# Altium schematic symbol library DIODES PTH.SchLib: 5 symbols
Pins are listed as number, name and electrical type; pins without a type are passive.

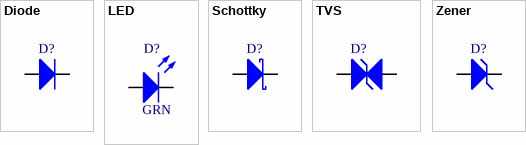
[diagram p0: symbols Diode to Zener]

## Diode
designator D?
Default Diode; Populated: Yes; ROHS: Yes; LifeCycle: Checked
footprint C1702-05
footprint C1702-15
footprint C1702-15
footprint C1702E15
footprint C2672
footprint C2673
footprint C2992
footprint C5102
footprint C4111-15
footprint CB417-12
footprint CB417-15
footprint CB429-15
footprint CB429-17
footprint D-2.5
footprint D-5
footprint D-7.5
footprint D-10
footprint D-12.5
footprint DO07
footprint DO13M
footprint DO15-12
footprint DO27-15
footprint DO27-15E
footprint DO27Z15
footprint DO34-5
footprint DO34-7
footprint DO34Z7
footprint DO35-7
footprint DO35-7A
footprint DO35-7B
footprint DO35-10
footprint DO35Z7
footprint DO35Z10
footprint DO41-7
footprint DO41-7.6
footprint DO41-10
footprint DO41Z10
footprint DO201-15
footprint DO201T15
footprint DO204-10
footprint DO218L
footprint DO218S
footprint DO220L
footprint DO-15, 600mil Axial
footprint DOP3L
footprint ER900
footprint F126-10
footprint F126-10A
footprint F126-12
footprint F126-12A
footprint F126Z10A
footprint F126Z10
footprint F126Z12
footprint F126Z12A
footprint G4-12
footprint G4-12E
footprint G4-15
footprint GT32
footprint P1-10
footprint P1-10E
footprint P1-12
footprint P1-12E
footprint P1Z12
footprint P1Z12E
footprint P2-15
footprint P3-15
footprint P6-15
footprint P6T15
footprint RAD2,5
footprint RAD2,5L
footprint RAD5G
footprint SGA-10
footprint SGB-10
footprint SGC-10
footprint SOD57-10
footprint SOD57Z10
footprint SOD61A
footprint SOD61B
footprint SOD61C
footprint SOD61D
footprint SOD61E
footprint SOD64-10
footprint SOD64-12
footprint SOD64Z10
footprint SOD64Z12
footprint SOD81
footprint SOD81Z
footprint SOD83-12
footprint SOD84
footprint SOT1862S
footprint TO18D
footprint TO220AC
footprint TO220ACK
footprint TO220ACS
footprint ZDIO12.5
footprint ZDIO-2.5
footprint ZDIO-5
footprint ZDIO-7.5
footprint ZDIO-10
pins: A, C

## LED
designator D?, comment GRN
LED Diode; Populated: Yes; Value: GRN; ROHS: Yes; LifeCycle: Checked
footprint LED 3MM PTH
footprint WP934
pins: A, C

## Schottky
designator D?
Schottky  Diode; Populated: Yes; ROHS: Yes; LifeCycle: Checked
footprint C1702-05
footprint C1702-15
footprint C1702-15
footprint C1702E15
footprint C2672
footprint C2673
footprint C2992
footprint C5102
footprint C4111-15
footprint CB417-12
footprint CB417-15
footprint CB429-15
footprint CB429-17
footprint D-2.5
footprint D-5
footprint D-7.5
footprint D-10
footprint D-12.5
footprint DO07
footprint DO13M
footprint DO15-12
footprint DO27-15
footprint DO27-15E
footprint DO27Z15
footprint DO34-5
footprint DO34-7
footprint DO34Z7
footprint DO35-7
footprint DO35-7A
footprint DO35-7B
footprint DO35-10
footprint DO35Z7
footprint DO35Z10
footprint DO41-7
footprint DO41-7.6
footprint DO41-10
footprint DO41Z10
footprint DO201-15
footprint DO201T15
footprint DO204-10
footprint DO218L
footprint DO218S
footprint DO220L
footprint DO-15, 600mil Axial
footprint DOP3L
footprint ER900
footprint F126-10
footprint F126-10A
footprint F126-12
footprint F126-12A
footprint F126Z10A
footprint F126Z10
footprint F126Z12
footprint F126Z12A
footprint G4-12
footprint G4-12E
footprint G4-15
footprint GT32
footprint P1-10
footprint P1-10E
footprint P1-12
footprint P1-12E
footprint P1Z12
footprint P1Z12E
footprint P2-15
footprint P3-15
footprint P6-15
footprint P6T15
footprint RAD2,5
footprint RAD2,5L
footprint RAD5G
footprint SGA-10
footprint SGB-10
footprint SGC-10
footprint SOD57-10
footprint SOD57Z10
footprint SOD61A
footprint SOD61B
footprint SOD61C
footprint SOD61D
footprint SOD61E
footprint SOD64-10
footprint SOD64-12
footprint SOD64Z10
footprint SOD64Z12
footprint SOD81
footprint SOD81Z
footprint SOD83-12
footprint SOD84
footprint SOT1862S
footprint TO18D
footprint TO220AC
footprint TO220ACK
footprint TO220ACS
footprint ZDIO12.5
footprint ZDIO-2.5
footprint ZDIO-5
footprint ZDIO-7.5
footprint ZDIO-10
pins: A, C

## TVS
designator D?
TVS Diode; Populated: Yes; ROHS: Yes; LifeCycle: Checked
footprint C1702-05
footprint C1702-15
footprint C1702-15
footprint C1702E15
footprint C2672
footprint C2673
footprint C2992
footprint C5102
footprint C4111-15
footprint CB417-12
footprint CB417-15
footprint CB429-15
footprint CB429-17
footprint D-2.5
footprint D-5
footprint D-7.5
footprint D-10
footprint D-12.5
footprint DO07
footprint DO13M
footprint DO15-12
footprint DO27-15
footprint DO27-15E
footprint DO27Z15
footprint DO34-5
footprint DO34-7
footprint DO34Z7
footprint DO35-7
footprint DO35-7A
footprint DO35-7B
footprint DO35-10
footprint DO35Z7
footprint DO35Z10
footprint DO41-7
footprint DO41-7.6
footprint DO41-10
footprint DO41Z10
footprint DO201-15
footprint DO201T15
footprint DO204-10
footprint DO218L
footprint DO218S
footprint DO220L
footprint DO-15, 600mil Axial
footprint DOP3L
footprint ER900
footprint F126-10
footprint F126-10A
footprint F126-12
footprint F126-12A
footprint F126Z10A
footprint F126Z10
footprint F126Z12
footprint F126Z12A
footprint G4-12
footprint G4-12E
footprint G4-15
footprint GT32
footprint P1-10
footprint P1-10E
footprint P1-12
footprint P1-12E
footprint P1Z12
footprint P1Z12E
footprint P2-15
footprint P3-15
footprint P6-15
footprint P6T15
footprint RAD2,5
footprint RAD2,5L
footprint RAD5G
footprint SGA-10
footprint SGB-10
footprint SGC-10
footprint SOD57-10
footprint SOD57Z10
footprint SOD61A
footprint SOD61B
footprint SOD61C
footprint SOD61D
footprint SOD61E
footprint SOD64-10
footprint SOD64-12
footprint SOD64Z10
footprint SOD64Z12
footprint SOD81
footprint SOD81Z
footprint SOD83-12
footprint SOD84
footprint SOT1862S
footprint TO18D
footprint TO220AC
footprint TO220ACK
footprint TO220ACS
footprint ZDIO12.5
footprint ZDIO-2.5
footprint ZDIO-5
footprint ZDIO-7.5
footprint ZDIO-10
pins: A, C

## Zener
designator D?
Zener Diode; Populated: Yes; ROHS: Yes; LifeCycle: Checked
footprint C1702-05
footprint C1702-15
footprint C1702-15
footprint C1702E15
footprint C2672
footprint C2673
footprint C2992
footprint C5102
footprint C4111-15
footprint CB417-12
footprint CB417-15
footprint CB429-15
footprint CB429-17
footprint D-2.5
footprint D-5
footprint D-7.5
footprint D-10
footprint D-12.5
footprint DO07
footprint DO13M
footprint DO15-12
footprint DO27-15
footprint DO27-15E
footprint DO27Z15
footprint DO34-5
footprint DO34-7
footprint DO34Z7
footprint DO35-7
footprint DO35-7A
footprint DO35-7B
footprint DO35-10
footprint DO35Z7
footprint DO35Z10
footprint DO41-7
footprint DO41-7.6
footprint DO41-10
footprint DO41Z10
footprint DO201-15
footprint DO201T15
footprint DO204-10
footprint DO218L
footprint DO218S
footprint DO220L
footprint DO-15, 600mil Axial
footprint DOP3L
footprint ER900
footprint F126-10
footprint F126-10A
footprint F126-12
footprint F126-12A
footprint F126Z10A
footprint F126Z10
footprint F126Z12
footprint F126Z12A
footprint G4-12
footprint G4-12E
footprint G4-15
footprint GT32
footprint P1-10
footprint P1-10E
footprint P1-12
footprint P1-12E
footprint P1Z12
footprint P1Z12E
footprint P2-15
footprint P3-15
footprint P6-15
footprint P6T15
footprint RAD2,5
footprint RAD2,5L
footprint RAD5G
footprint SGA-10
footprint SGB-10
footprint SGC-10
footprint SOD57-10
footprint SOD57Z10
footprint SOD61A
footprint SOD61B
footprint SOD61C
footprint SOD61D
footprint SOD61E
footprint SOD64-10
footprint SOD64-12
footprint SOD64Z10
footprint SOD64Z12
footprint SOD81
footprint SOD81Z
footprint SOD83-12
footprint SOD84
footprint SOT1862S
footprint TO18D
footprint TO220AC
footprint TO220ACK
footprint TO220ACS
footprint ZDIO12.5
footprint ZDIO-2.5
footprint ZDIO-5
footprint ZDIO-7.5
footprint ZDIO-10
pins: A, C